# Altium schematic symbol library ICM-42688-P.SchLib: 1 symbol
Pins are listed as number, name and electrical type; pins without a type are passive.

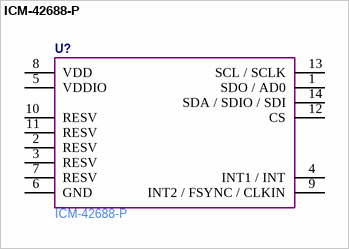
[diagram p0: symbol ICM-42688-P]

## ICM-42688-P
designator U?  Manufacturer Part Number: ICM-42688-P  (hidden comment: *)
pins: 1 SDO / AD0, 2 RESV "No Connect or Connect to GND", 3 RESV "No Connect or Connect to GND", 4 INT1 / INT, 5 VDDIO, 6 GND, 7 RESV "Connect to GND", 8 VDD, 9 INT2 / FSYNC / CLKIN, 10 RESV "No Connect or Connect to GND", 11 RESV "No Connect or Connect to GND", 12 CS, 13 SCL / SCLK, 14 SDA / SDIO / SDI